# Altium schematic symbol library C.SchLib: 46 symbols
Pins are listed as number, name and electrical type; pins without a type are passive.

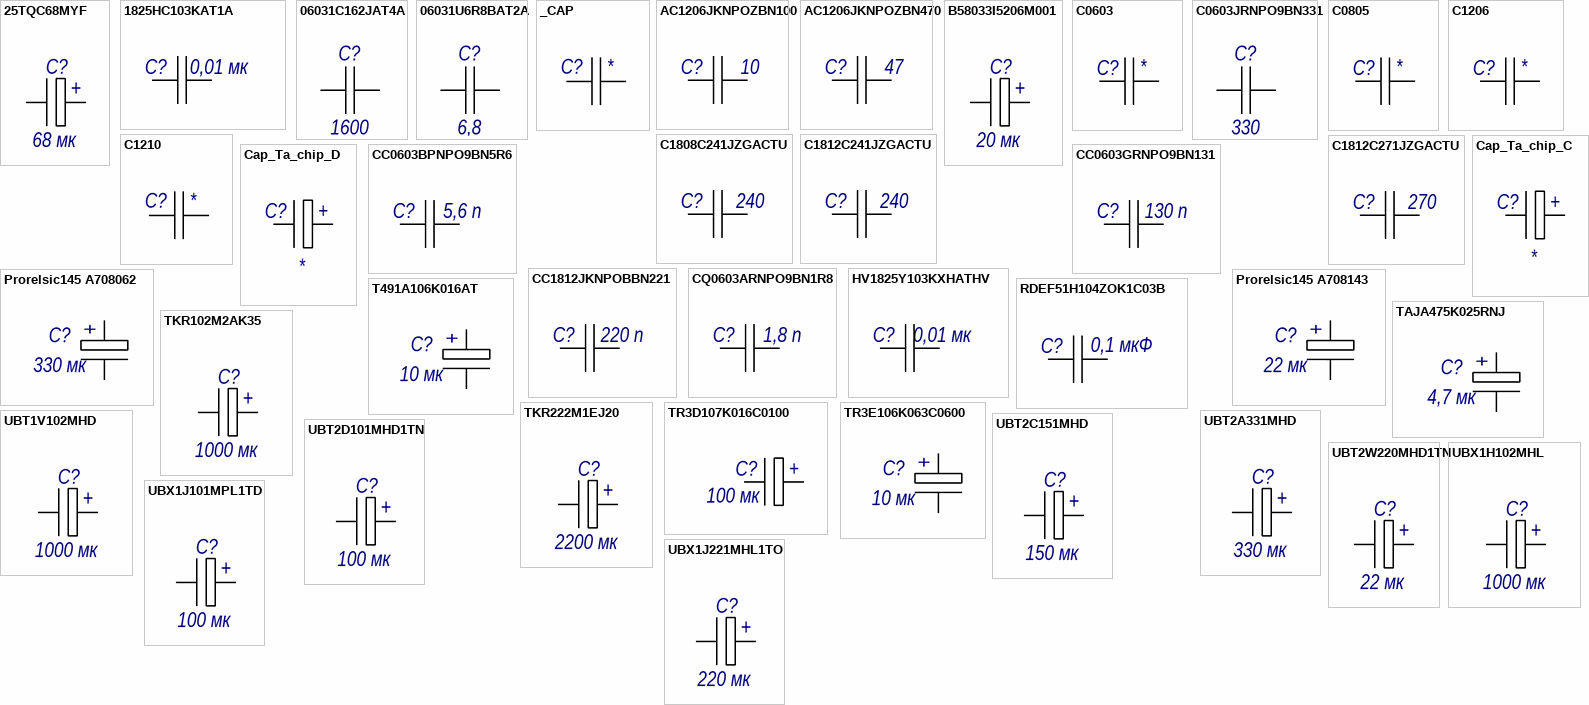
[diagram p0: symbols 25TQC68MYF to UBX1J221MHL1TO]

## 25TQC68MYF
designator C?  value 68 мк  (hidden comment: 25TQC68MYF)
Конденсатор танталовый полимерный 68 мк-25 В-20%; Manufacturer: Panasonic; NomU: 25V; GOST: Конденсатор 25TQC68MYF фирма "Panasonic"; Tol: 20%; PartNumber: 25TQC68MYF; Temperature Range: -55 +105 °C; Size: 7.3x4.3x2.8 mm
footprint CHIPD (Dim 7.3mm*4.3mm H=3.1mm (EIA 7343-31))
pins: A 2, C 1
text: +

## 1825HC103KAT1A
designator C?, comment value 0,01 мк  (hidden comment: Конденсатор 1825HC103KAT1A фирма "AVX")
чип 1825-X7R-3 кВ-10000 п ±10% AVX; NomU: 3 кВ; TKE: X7R; Manufacturer: AVX; PartNumber: 1825HC103KAT1A; TCh: 10%; GOST: Конденсатор 1825HC103KAT1A фирма "AVX"; Size: 4.5mm*6.4mm H=3.4mm Terminal 0.75mm
footprint C1825_H340M (Dim 4.5mm*6.4mm Terminal 0.75mm (корпус 5х6.8 мм) H=3.4mm)
pins: 1, 2
1 alternate drawing of the same symbol

## 06031C162JAT4A
designator C?, comment value 1600  (hidden comment: Конденсатор 06031C162JAT4A фирма "AVX")
чип 0603-X7R-100 В-1600 п ±5% AVX; NomU: 100 В; TKE: X7R; Manufacturer: AVX; PartNumber: 06031C162JAT4A; TCh: 5%; GOST: Конденсатор 06031C162JAT4A фирма "AVX"
footprint C0603_H090M (Dim 1.6mm*0.8mm H=0.9mm)
pins: 1, 2
1 alternate drawing of the same symbol

## 06031U6R8BAT2A
designator C?, comment value 6,8  (hidden comment: Конденсатор 06031U6R8BAT2A фирма "AVX")
чип 0603-NP0-100 В-6,8 п ±0,1 п AVX; TCh: ±0,1 п; NomU: 100 В; TKE: X7R; Manufacturer: AVX; PartNumber: 06031U6R8BAT2A; GOST: Конденсатор 06031U6R8BAT2A фирма "AVX"
footprint C0603_H090M (Dim 1.6mm*0.8mm H=0.9mm)
pins: 1, 2
1 alternate drawing of the same symbol

## _CAP
designator C?, comment * 50В X7R *-P\N-*  (value not drawn)
Capacitor; Manufacturer: Any; PartNumber: *; TCh: *; NomU: 50В; TKE: X7R; Value: *
pins: 1, 2
1 alternate drawing of the same symbol

## AC1206JKNPOZBN100
designator C?, comment value 10  (hidden comment: Конденсатор AC1206JKNPOZBN100 фирма "YAGEO")
чип 1206-NP0-630 В-10 п ±5% YAGEO; NomU: 630В; TKE: NP0; Manufacturer: YAGEO; PartNumber: AC1206JKNPOZBN100; TCh: 5%; GOST: Конденсатор AC1206JKNPOZBN100 фирма "YAGEO"
footprint C1206_H130M (Dim 3.2mm*1.6mm H=1.15mm)
pins: 1, 2
1 alternate drawing of the same symbol

## AC1206JKNPOZBN470
designator C?, comment value 47  (hidden comment: Конденсатор AC1206JKNPOZBN470 фирма "YAGEO")
чип 1206-NP0-630 В-47 п ±5% YAGEO; NomU: 630В; TKE: NP0; Manufacturer: YAGEO; PartNumber: AC1206JKNPOZBN470; TCh: 5%; GOST: Конденсатор AC1206JKNPOZBN470 фирма "YAGEO"
footprint C1206_H130M (Dim 3.2mm*1.6mm H=1.15mm)
pins: 1, 2
1 alternate drawing of the same symbol

## B58033I5206M001
designator C?  value 20 мк  (hidden comment: B58033I5206M001)
500В 20 мк; Manufacturer: Any; NomU: 500V; PartNumber: B58033I5206M001
pins: A 2, C 1
text: +

## C0603
designator C?, comment * 50В X7R *-P\N-*  (value not drawn)
Capacitor; Manufacturer: Any; PartNumber: *; TCh: *; NomU: 50В; TKE: X7R; Value: *
footprint C0603_H090M (Dim 1.6mm*0.8mm H=0.9mm)
pins: 1, 2
1 alternate drawing of the same symbol

## C0603JRNPO9BN331
designator C?, comment value 330  (hidden comment: Конденсатор C0603JRNPO9BN331 фирма "Yageo")
чип 0603-NP0-50 В-330 п ±5% Yageo; NomU: 50 В; TKE: NP0; Manufacturer: Yageo; PartNumber: C0603JRNPO9BN331; TCh: 5%; GOST: Конденсатор C0603JRNPO9BN331 фирма "Yageo"
footprint C0603_H090M (Dim 1.6mm*0.8mm H=0.9mm)
pins: 1, 2
1 alternate drawing of the same symbol

## C0805
designator C?, comment * 50В X7R *-P\N-*  (value not drawn)
Capacitor; Manufacturer: Any; PartNumber: *; TCh: *; NomU: 50В; TKE: X7R; Value: *
footprint C0805_H090M (Dim 2mm*1.25mm H=0.9mm)
footprint C0805_H135M (Dim 2mm*1.25mm H=1.35mm)
pins: 1, 2
1 alternate drawing of the same symbol

## C1206
designator C?, comment * 50В X7R *-P\N-*  (value not drawn)
Capacitor; Manufacturer: Any; PartNumber: *; TCh: *; NomU: 50В; TKE: X7R; Value: *
footprint C1206_H130M (Dim 3.2mm*1.6mm H=1.15mm)
footprint C1206_H180M (Dim 3.2mm*1.6mm H=1.6mm)
pins: 1, 2
1 alternate drawing of the same symbol

## C1210
designator C?, comment * 50В X7R *-P\N-*  (value not drawn)
Capacitor; Manufacturer: Any; PartNumber: *; TCh: *; NomU: 50В; TKE: X7R; Value: *
footprint C1210_H230M (Dim 3.2mm*2.5mm H=2.3mm)
pins: 1, 2
1 alternate drawing of the same symbol

## C1808C241JZGACTU
designator C?, comment value 240  (hidden comment: Конденсатор C1808C241JZGACTU фирма "KEMET")
чип 1808-NP0-2,5 кВ-240 п ±0,5 п 125 C KEMET; TCh: 0,5 п; NomU: 2,5 кВ; TKE: NP0; Manufacturer: KEMET; PartNumber: C1808C241JZGACTU; GOST: Конденсатор C1808C241JZGACTU фирма "KEMET"
footprint C1808_H200M (Dim 4.5mm*2.0mm H=2mm)
pins: 1, 2
1 alternate drawing of the same symbol

## C1812C241JZGACTU
designator C?, comment value 240  (hidden comment: Конденсатор C1812C241JZGACTU фирма "KEMET")
чип 1812-NP0-2,5 кВ-240 п ±0,5 п 125 C KEMET; TCh: 0,5 п; NomU: 2,5 кВ; TKE: NP0; Manufacturer: KEMET; PartNumber: C1812C241JZGACTU; GOST: Конденсатор C1812C241JZGACTU фирма "KEMET"
footprint C1812_H250M (Dim 4.5mm*3.2mm H=2.5mm)
pins: 1, 2
1 alternate drawing of the same symbol

## C1812C271JZGACTU
designator C?, comment value 270  (hidden comment: Конденсатор C1812C271JZGACTU фирма "KEMET")
чип 1812-NP0-2,5 кВ-270 п ± 5% 125 C KEMET; NomU: 2,5 кВ; TKE: NP0; Manufacturer: KEMET; PartNumber: C1812C271JZGACTU; TCh: 5%; GOST: Конденсатор C1812C271JZGACTU фирма "KEMET"
footprint C1812_H250M (Dim 4.5mm*3.2mm H=2.5mm)
footprint C1812_H220M (Dim 4.5mm*3.2mm H=2.2mm)
pins: 1, 2
1 alternate drawing of the same symbol

## Cap_Ta_chip_C
designator C?, comment * 50В-P\N-*  (value not drawn)
Capacitor SMD C; Manufacturer: Any; NomU: 50В; PartNumber: *; Value: *
footprint CHIPC (SMD C)
pins: A 2, C 1
text: +

## Cap_Ta_chip_D
designator C?, comment * 50В-P\N-*  (value not drawn)
Capacitor SMD D; Manufacturer: Any; NomU: 50В; PartNumber: *; Value: *
footprint CHIPD (Dim 7.3mm*4.3mm H=3.1mm (EIA 7343-31))
pins: A 2, C 1
text: +

## CC0603BPNPO9BN5R6
designator C?, comment value 5,6 п  (hidden comment: Конденсатор CC0603BPNPO9BN5R6 фирма "YAGEO")
чип 0603-NP0-50 В-5,6 п ± 0,1 п +125С YAGEO; TCh: 0,1п; NomU: 50В; TKE: NP0; Manufacturer: YAGEO; PartNumber: CC0603BPNPO9BN5R6; GOST: Конденсатор CC0603BPNPO9BN5R6 фирма "YAGEO"
footprint C0603_H090M (Dim 1.6mm*0.8mm H=0.9mm)
pins: 1, 2
1 alternate drawing of the same symbol

## CC0603GRNPO9BN131
designator C?, comment value 130 п  (hidden comment: Конденсатор CC0603GRNPO9BN131 фирма "YAGEO")
чип 0603-NP0-50 В-130 п ± 2% NP0 +125С YAGEO; NomU: 50В; Manufacturer: YAGEO; PartNumber: CC0603GRNPO9BN131; TCh: 2%; TKE: NP0; GOST: Конденсатор CC0603GRNPO9BN131 фирма "YAGEO"
footprint C0603_H090M (Dim 1.6mm*0.8mm H=0.9mm)
pins: 1, 2
1 alternate drawing of the same symbol

## CC1812JKNPOBBN221
designator C?, comment value 220 п  (hidden comment: Конденсатор CC1812JKNPOBBN221 фирма "YAGEO")
чип 1812-NP0-500 В-220 п ±5% YAGEO; NomU: 500В; TKE: NP0; Manufacturer: YAGEO; PartNumber: CC1812JKNPOBBN221; TCh: 5%; GOST: Конденсатор CC1812JKNPOBBN221 фирма "YAGEO"
footprint C1812_H250M (Dim 4.5mm*3.2mm H=2.5mm)
pins: 1, 2
1 alternate drawing of the same symbol

## CQ0603ARNPO9BN1R8
designator C?, comment value 1,8 п  (hidden comment: Конденсатор CQ0603ARNPO9BN1R8 фирма "YAGEO")
чип 0603-NP0-50 В-1,8 п ± 0,05 п +125С YAGEO; TCh: 0,05п; NomU: 50В; TKE: NP0; Manufacturer: YAGEO; PartNumber: CQ0603ARNPO9BN1R8; GOST: Конденсатор CQ0603ARNPO9BN1R8 фирма "YAGEO"
footprint C0603_H090M (Dim 1.6mm*0.8mm H=0.9mm)
pins: 1, 2
1 alternate drawing of the same symbol

## HV1825Y103KXHATHV
designator C?, comment value 0,01 мк  (hidden comment: Конденсатор HV1825Y103KXHATHV фирма "VISHAY")
чип 1825-X7R-3 кВ-10000 п ±10% VISHAY; NomU: 3 кВ; TKE: X7R; Manufacturer: VISHAY; PartNumber: HV1825Y103KXHATHV; TCh: 10%; GOST: Конденсатор HV1825Y103KXHATHV фирма "VISHAY"; Size: 4.5mm*6.4mm H=2.7mm
footprint C1825_H270M (Dim 4.5mm*6.4mm Terminal 0.75mm (корпус 5х6.8 мм) H=2.7mm)
pins: 1, 2
1 alternate drawing of the same symbol

## Prorelsic145 A708062
designator C?  value 330 мк  (hidden comment: Prorelsic145 A708062)
Конденсатор электролитический алюминиевый 330 мк - 63 В - 50%; Manufacturer: Sic-safco; NomU: 63V; GOST: Конденсатор Prorelsic145 A708062 фирма "Sic-safco"; PartNumber: Prorelsic145 A708062; Tol: 50%; Temperature Range: -55 +145 °C
footprint Prorelsic 145_D18_L30_A40 (D=18mm L=30 Pitch=40)
pins: A 2, C 1
text: +

## Prorelsic145 A708143
designator C?  value 22 мк  (hidden comment: Prorelsic145 A708143)
Конденсатор электролитический алюминиевый 22 мк - 450 В - 50%; Manufacture: Sic-safco; NomU: 450V; GOST: Конденсатор Prorelsic145 A708143 фирма "Sic-safco"; PartNumber: Prorelsic145 A708143; Tol: 50%; Temperature Range: -55 +145 °C
footprint Prorelsic 145_D18_L30_A40 (D=18mm L=30 Pitch=40)
pins: A 2, C 1
text: +

## RDEF51H104ZOK1C03B
designator C?, comment value 0,1 мкФ  (hidden comment: Конденсатор RDEF51H104ZOK1C03B фирма "Murata")
0,1мкФ-50 В-Y5V  Murata (К10-17Б); TCh: +80/-20%; NomU: 50В; TKE: Y5V; Manufacturer: Murata; PartNumber: RDEF51H104ZOK1C03B; GOST: Конденсатор RDEF51H104ZOK1C03B фирма "Murata"
footprint К10-17Б (5мм) (Cap, step 5mm, L=4mm, B=2.5mm, H=6mm)
pins: 1, 2
1 alternate drawing of the same symbol

## T491A106K016AT
designator C?  value 10 мк  (hidden comment: T491A106K016AT)
10µF Molded Tantalum Capacitors 16V 1206 (3216 Metric) 3Ohm; Manufacturer: Kemet; GOST: Конденсатор T491A106K016AT фирма "KEMET"; Tol: 10%; Temp: -55...+125 degC; PartNumber: T491A106K016AT; NomU: 16V
footprint CHIPA (Dim 3.2mm*1.6mm H=1.8mm (EIA 3216-18))
pins: A 2, C 1
text: +

## TAJA475K025RNJ
designator C?, comment value 4,7 мк  (hidden comment: Конденсатор TAJA475K025RNJ фирма "AVX Corporation")
4.7µF Molded Tantalum Capacitors 25V 1206 (3216 Metric) 3.1Ohm; Tol: 10%; Manufacturer: AVX Corporation; PartNumber: TAJA475K025RNJ; NomU: 25V; GOST: Конденсатор TAJA475K025RNJ фирма "AVX Corporation"; Temperature Range: -55 +125 °C
footprint CHIPA (Dim 3.2mm*1.6mm H=1.8mm (EIA 3216-18))
pins: A 2, C 1
text: +

## TKR102M2AK35
designator C?, comment value 1000 мк  (hidden comment: Конденсатор TKR102M2AK35 фирма "Jamicon")
Конденсатор электролитический алюминиевый 1000 мк -100 В - 20%; NomU: 100V; Manufacturer: Jamicon; PartNumber: TKR102M2AK35; GOST: Конденсатор TKR102M2AK35 фирма "Jamicon"; Tol: 20%; Temperature Range: -55 +105 °C
footprint CAP_Radial D16_A7.5_H35 (Circle 2 Pin (D16 Pitch 7.5 H=35) mm)
pins: A 2, C 1
text: +

## TKR222M1EJ20
designator C?, comment value 2200 мк  (hidden comment: Конденсатор TKR222M1EJ20 фирма "Jamicon")
Конденсатор электролитический алюминиевый 2200 мк - 25 В - 20%; NomU: 25V; Manufacturer: Jamicon; PartNumber: TKR222M1EJ20; GOST: Конденсатор TKR222M1EJ20 фирма "Jamicon"; Tol: 20%; Temperature Range: -55 +105 °C
footprint CAP_Radial D12.5_A5_H26.5 (Circle 2 Pin (D12.5 Pitch 5 H=26.5))
pins: A 2, C 1
text: +

## TR3D107K016C0100
designator C?, comment value 100 мк  (hidden comment: 100 мк 16В-P\N-TR3D107K016C0100)
100 мк, 16В, SMD D, Vishay; GOST: Конденсатор TR3D107K016C0100 фирма "Vishay"; Manufacturer: Vishay; PartNumber: TR3D107K016C0100; NomU: 16В
footprint CHIPD (Dim 7.3mm*4.3mm H=3.1mm (EIA 7343-31))
pins: A 2, C 1
text: +

## TR3E106K063C0600
designator C?  value 10 мк  (hidden comment: TR3E106K063C0600)
10µF Molded Tantalum Capacitors 63V 2917 (7343 Metric) 600mOhm; Manufacturer: Vishay Sprague; GOST: Конденсатор TR3E106K063C0600 фирма "Vishay Sprague"; Tol: 10%; PartNumber: TR3E106K063C0600; NomU: 63V; Temperature Range: -55 +85 °C
footprint CHIPX (Dim 7.3mm*4.3mm H=4.3mm (EIA 7243-43))
pins: A 2, C 1
text: +

## UBT1V102MHD
designator C?, comment value 1000 мк  (hidden comment: Конденсатор UBT1V102MHD фирма "Nichicon")
Конденсатор электролитический алюминиевый 1000 мк - 35 В - 20%; NomU: 35V; Manufacturer: Nichicon; PartNumber: UBT1V102MHD; GOST: Конденсатор UBT1V102MHD фирма "Nichicon"; Tol: 20%; Temperature Range: -40 +125 °C
footprint CAP_Radial D16_A7.5_H25 (Circle 2 Pin (D16 Pitch 7.5 H=25) mm)
pins: A 2, C 1
text: +

## UBT2A331MHD
designator C?, comment value 330 мк  (hidden comment: Конденсатор UBT2A331MHD фирма "Nichicon")
Конденсатор электролитический алюминиевый 330 мк - 100 В - 20%; NomU: 100В; Manufacturer: Nichicon; PartNumber: UBT2A331MHD; GOST: Конденсатор UBT2A331MHD фирма "Nichicon"; Tol: 20%; Temperature Range: -40 +125 °C
footprint CAP_Radial D16_A7.5_H31.5 (Circle 2 Pin (D16 Pitch 7.5 H=31.5) mm)
footprint CAP_Radial D16_A7.5_H31.5_G (Circle 2 Pin (D16 Pitch 7.5 H=31.5) mm - gorizont)
footprint CAP_Radial D16_A7.5_H31.5_G180 (Circle 2 Pin (D16 Pitch 7.5 H=31.5) mm - gorizont)
pins: A 2, C 1
text: +

## UBT2C151MHD
designator C?, comment value 150 мк  (hidden comment: Конденсатор UBT2C151MHD фирма "Nichicon")
Конденсатор электролитический алюминиевый 150 мк - 160 В - 20%; NomU: 160V; Manufacturer: Nichicon; PartNumber: UBT2C151MHD; GOST: Конденсатор UBT2C151MHD фирма "Nichicon"; Tol: 20%; Temperature Range: -40 +125 °C
footprint CAP_Radial D16_A7.5_H31.5 (Circle 2 Pin (D16 Pitch 7.5 H=31.5) mm)
pins: A 2, C 1
text: +

## UBT2D101MHD1TN
designator C?, comment value 100 мк  (hidden comment: Конденсатор UBT2D101MHD1TN фирма "Nichicon")
Конденсатор электролитический алюминиевый 100 мк - 200 В - 20%; NomU: 200В; Manufacturer: Nichicon; PartNumber: UBT2D101MHD1TN; GOST: Конденсатор UBT2D101MHD1TN фирма "Nichicon"; Tol: 20%; Temperature Range: -40 +125 °C
footprint CAP_Radial D16_A7.5_H25 (Circle 2 Pin (D16 Pitch 7.5 H=25) mm)
pins: A 2, C 1
text: +

## UBT2W220MHD1TN
designator C?, comment value 22 мк  (hidden comment: Конденсатор UBT2W220MHD1TN фирма "Nichicon")
Конденсатор электролитический алюминиевый 22 мк - 450 В - 20%; NomU: 450V; Manufacturer: Nichicon; PartNumber: UBT2W220MHD1TN; GOST: Конденсатор UBT2W220MHD1TN фирма "Nichicon"; Tol: 20%; Temperature Range: -40 +125 °C
footprint CAP_Radial D16_A7.5_H25 (Circle 2 Pin (D16 Pitch 7.5 H=25) mm)
footprint CAP_Radial D16_A7.5_H25_G (Circle 2 Pin (D16 Pitch 7.5 H=25) mm Gorizont)
footprint CAP_Radial D16_A7.5_H25_G180 (Circle 2 Pin (D16 Pitch 7.5 H=25) mm Gorizont)
pins: A 2, C 1
text: +

## UBX1H102MHL
designator C?, comment value 1000 мк  (hidden comment: Конденсатор UBX1H102MHL фирма "Nichicon")
Конденсатор электролитический алюминиевый 1000 мк - 50 В - 20%; NomU: 50V; Manufacturer: Nichicon; PartNumber: UBX1H102MHL; GOST: Конденсатор UBX1H102MHL фирма "Nichicon"; Tol: 20%; Temperature Range: -55 +150 °C
footprint CAP_Radial D16_A7.5_H31.5 (Circle 2 Pin (D16 Pitch 7.5 H=31.5) mm)
pins: A 2, C 1
text: +

## UBX1J101MPL1TD
designator C?, comment value 100 мк  (hidden comment: Конденсатор UBX1J101MPL1TD фирма "Nichicon")
Конденсатор электролитический алюминиевый 100 мк - 63 В - 20%; NomU: 63V; Manufacturer: Nichicon; PartNumber: UBX1J101MPL1TD; GOST: Конденсатор UBX1J101MPL1TD фирма "Nichicon"; Tol: 20%; Temperature Range: -55 +150 °C
footprint CAP_Radial D10_A5_H16 (Circle 2 Pin (D10 Pitch 5 H=16))
pins: A 2, C 1
text: +

## UBX1J221MHL1TO
designator C?, comment value 220 мк  (hidden comment: Конденсатор UBX1J221MHL1TO фирма "Nichicon")
Конденсатор электролитический алюминиевый 220 мк - 63 В - 20%; NomU: 63V; Manufacturer: Nichicon; PartNumber: UBX1J221MHL1TO; GOST: Конденсатор UBX1J221MHL1TO фирма "Nichicon"; Tol: 20%; Temperature Range: -55 +150 °C
footprint CAP_Radial D12.5_A5_H20 (Circle 2 Pin (D12.5 Pitch 5 H=20))
pins: A 2, C 1
text: +

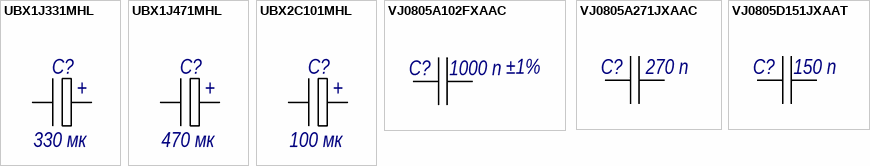
[diagram p1: symbols UBX1J331MHL to VJ0805D151JXAAT]

## UBX1J331MHL
designator C?, comment value 330 мк  (hidden comment: Конденсатор UBX1J331MHL фирма "Nichicon")
Конденсатор электролитический алюминиевый 330 мк - 63 В - 20%; NomU: 63V; Manufacturer: Nichicon; PartNumber: UBX1J331MHL; GOST: Конденсатор UBX1J331MHL фирма "Nichicon"; Tol: 20%; Temperature Range: -55 +150 °C
footprint CAP_Radial D12.5_A5_H31.5 (Circle 2 Pin (D12.5 Pitch 5 H=31.5))
footprint CAP_Radial D12.5_A5_H31.5_G (Circle 2 Pin (D12.5 Pitch 5 H=31.5) mm - gorizont)
footprint CAP_Radial D12.5_A5_H31.5_G180 (Circle 2 Pin (D12.5 Pitch 5 H=31.5) mm - gorizont)
pins: A 2, C 1
text: +

## UBX1J471MHL
designator C?, comment value 470 мк  (hidden comment: Конденсатор UBX1J471MHL фирма "Nichicon")
Конденсатор электролитический алюминиевый 470 мк - 63 В - 20%; NomU: 63V; Manufacturer: Nichicon; PartNumber: UBX1J471MHL; GOST: Конденсатор UBX1J471MHL фирма "Nichicon"; Tol: 20%; Temperature Range: -55 +150 °C
footprint CAP_Radial D16_A7.5_H25_G (Circle 2 Pin (D16 Pitch 7.5 H=25) mm Gorizont)
pins: A 2, C 1
text: +

## UBX2C101MHL
designator C?, comment value 100 мк  (hidden comment: Конденсатор UBX2C101MHL фирма "Nichicon")
Конденсатор электролитический алюминиевый 100 мк - 160 В - 20%; NomU: 160V; Manufacturer: Nichicon; PartNumber: UBX2C101MHL; GOST: Конденсатор UBX2C101MHL фирма "Nichicon"; Tol: 20%; Temperature Range: -40 +150 °C
footprint CAP_Radial D16_A7.5_H25 (Circle 2 Pin (D16 Pitch 7.5 H=25) mm)
pins: A 2, C 1
text: +

## VJ0805A102FXAAC
designator C?, comment value 1000 п  TCh: ±1%  (hidden comment: Конденсатор VJ0805A102FXAAC фирма "Vishay Vitramon")
чип 0805-NP0-50 В-1000 п ±1% VISHAY; NomU: 50 В; TKE: NP0; Manufacturer: Vishay Vitramon; PartNumber: VJ0805A102FXAAC; GOST: Конденсатор VJ0805A102FXAAC фирма "Vishay Vitramon"
footprint C0805_H135M (Dim 2mm*1.25mm H=1.35mm)
pins: 1, 2
1 alternate drawing of the same symbol

## VJ0805A271JXAAC
designator C?, comment value 270 п  (hidden comment: Конденсатор VJ0805A271JXAAC фирма "Vishay Vitramon")
чип 0805-NP0-50 В-270 п ±5% VISHAY; NomU: 50 В; TKE: NP0; Manufacturer: Vishay Vitramon; PartNumber: VJ0805A271JXAAC; GOST: Конденсатор VJ0805A271JXAAC фирма "Vishay Vitramon"; TCh: ±5%
footprint C0805_H135M (Dim 2mm*1.25mm H=1.35mm)
pins: 1, 2
1 alternate drawing of the same symbol

## VJ0805D151JXAAT
designator C?, comment value 150 п  (hidden comment: Конденсатор VJ0805D151JXAAT фирма "Vishay Vitramon")
чип 0805-NP0-50 В-150 п ±5% VISHAY; NomU: 50 В; TKE: NP0; Dim: 2x1.25x1.45mm; Manufacturer: Vishay Vitramon; PartNumber: VJ0805D151JXAAT; GOST: Конденсатор VJ0805D151JXAAT фирма "Vishay Vitramon"; TCh: ±5%
footprint C0805_H135M (Dim 2mm*1.25mm H=1.35mm)
pins: 1, 2
1 alternate drawing of the same symbol